# EAGLE library part SGM8054 (library SGMicro_SGM80xx)
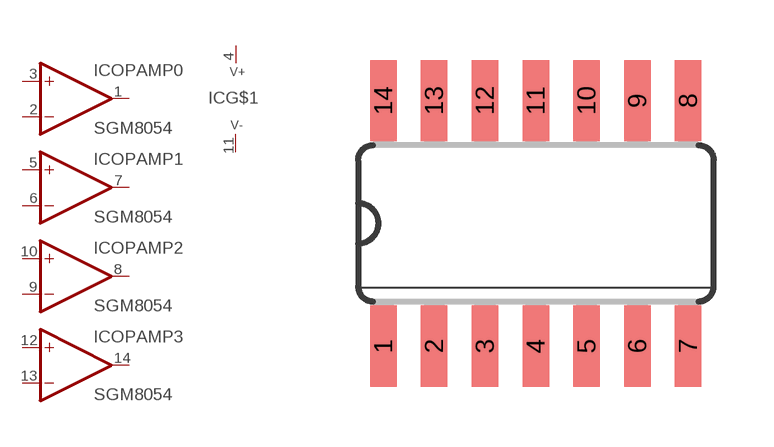
[diagram p1: symbol with the pads of SO14; footprint SO14]

Designator prefix IC; gates OPAMP0=OPAMP OPAMP1=OPAMP OPAMP2=OPAMP OPAMP3=OPAMP G$1=PWRN

## SGM8054  [SO14]
1  OPAMP0:OUT  out
2  OPAMP0:-IN  in
3  OPAMP0:+IN  in
4  G$1:V+  pwr
5  OPAMP1:+IN  in
6  OPAMP1:-IN  in
7  OPAMP1:OUT  out
8  OPAMP2:OUT  out
9  OPAMP2:-IN  in
10  OPAMP2:+IN  in
11  G$1:V-  pwr
12  OPAMP3:+IN  in
13  OPAMP3:-IN  in
14  OPAMP3:OUT  out

## Footprint SO14 (pad centres in mm)
Small Outline package 150 mil
smd 0.66 x 2.032: 1 -3.81,-3.073; 2 -2.54,-3.073; 3 -1.27,-3.073; 4 0,-3.073; 5 1.27,-3.073; 6 2.54,-3.073; 7 3.81,-3.073; 8 3.81,3.073; 9 2.54,3.073; 10 1.27,3.073; 11 0,3.073; 12 -1.27,3.073; 13 -2.54,3.073; 14 -3.81,3.073